# EAGLE library part SN65220DBVR (library texas)
Texas Instruments SN65220 Dual Line USB Port Transient Suppressor Datasheet <http://www.ti.com/lit/ds/symlink/sn65220.pdf>
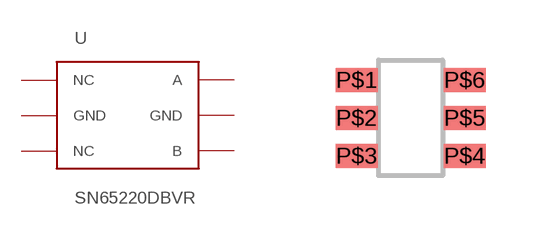
[diagram p127: symbol with the pads of SOT23-6PIN; footprint SOT23-6PIN]

Designator prefix -

## SN65220DBVR  [SOT23-6PIN]
P$1  NC
P$2  GND
P$3  NC
P$4  B
P$5  GND
P$6  A

## Footprint SOT23-6PIN (pad centres in mm)
smd 1.05 x 0.6: P$1 -1.35,0.95; P$2 -1.35,0; P$3 -1.35,-0.95; P$4 1.35,-0.95; P$5 1.35,0; P$6 1.35,0.95